# Altium integrated library 532610571.IntLib: 1 symbol
Pins are listed as number, name and electrical type; pins without a type are passive.

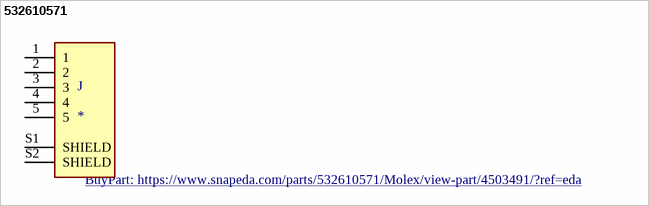
[diagram p0: symbol 532610571]

## 532610571
designator J
Connector Header Surface Mount, Right Angle 5 position 0.049 (1.25mm); MF: Molex; MP: 532610571; Value: *; Price: None; Availability: Warning; SnapEDA_Link: https://www.snapeda.com/parts/532610571/Molex/view-part/4503491/?ref=snap; Package: None; BuyPart: https://www.snapeda.com/parts/532610571/Molex/view-part/4503491/?ref=eda
footprint MOLEX_532610571
pins: 1, 2, 3, 4, 5, S1 SHIELD, S2 SHIELD